# Altium schematic symbol library SCH - MCU - RENESAS - RENESAS R7FS7G27XXXXXXBD 224BGA.SchLib: 1 symbol
Pins are listed as number, name and electrical type; pins without a type are passive.

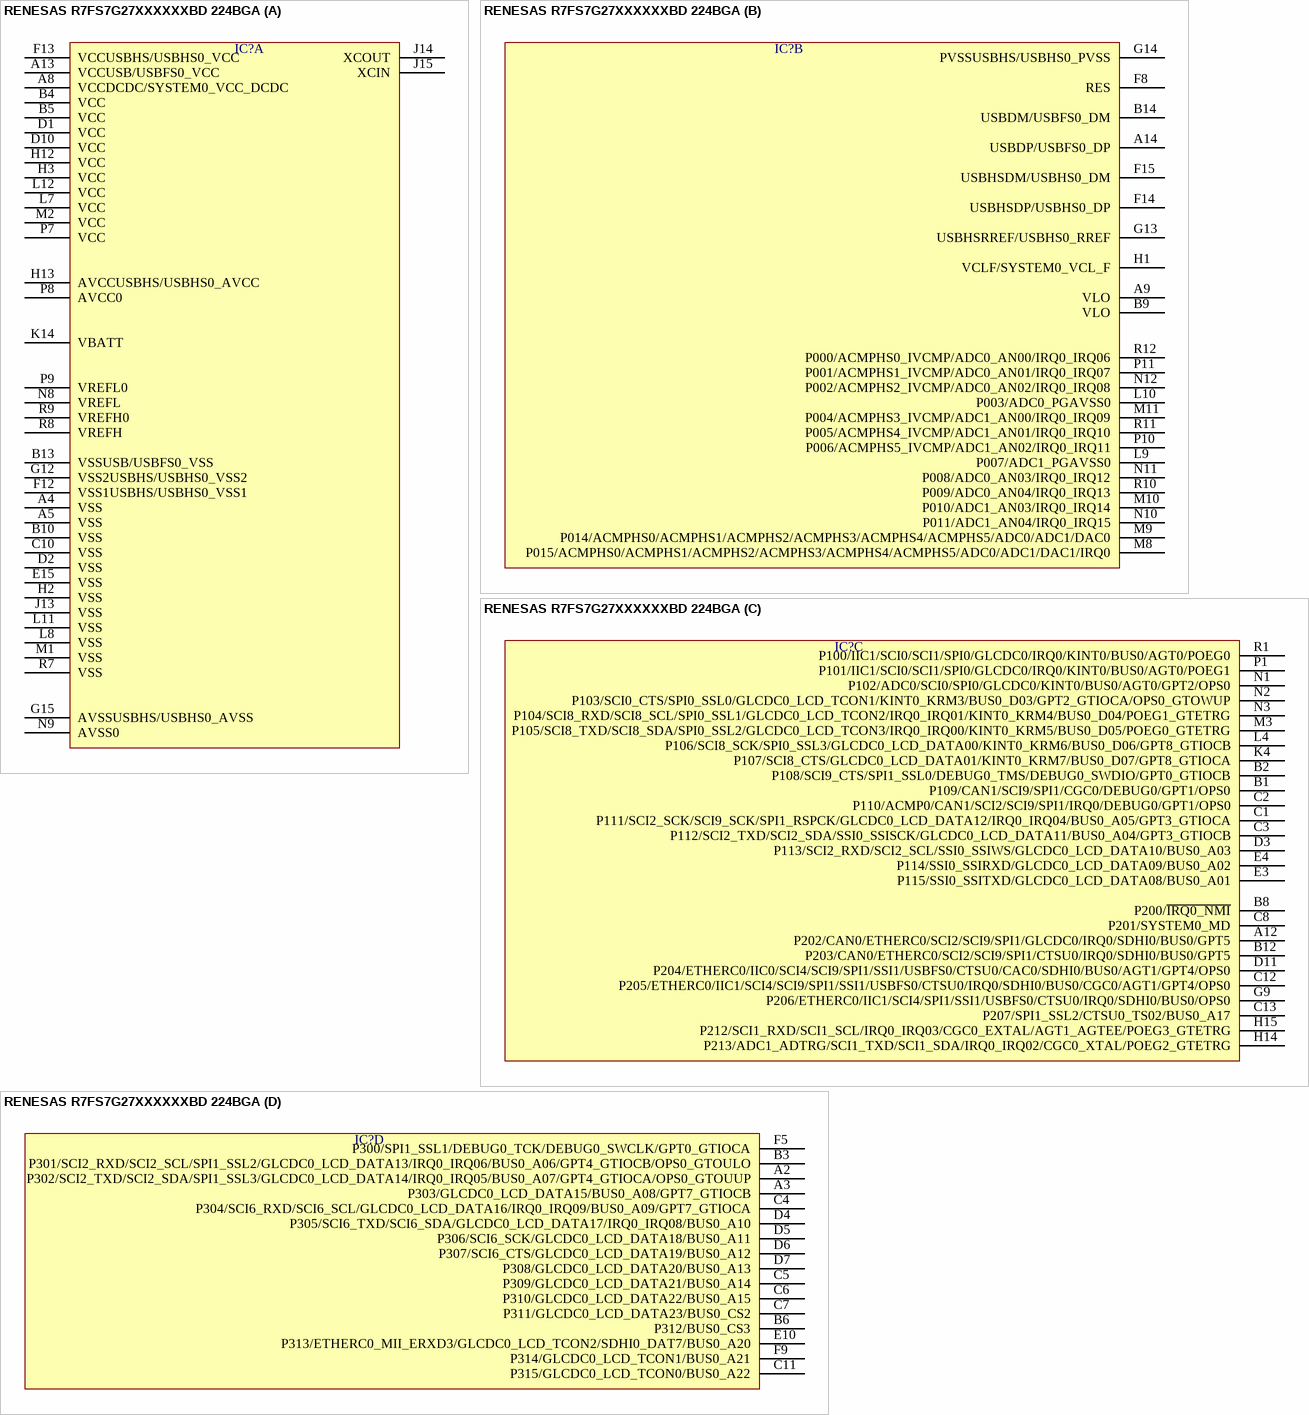
[diagram p0: symbol RENESAS R7FS7G27XXXXXXBD 224BGA]

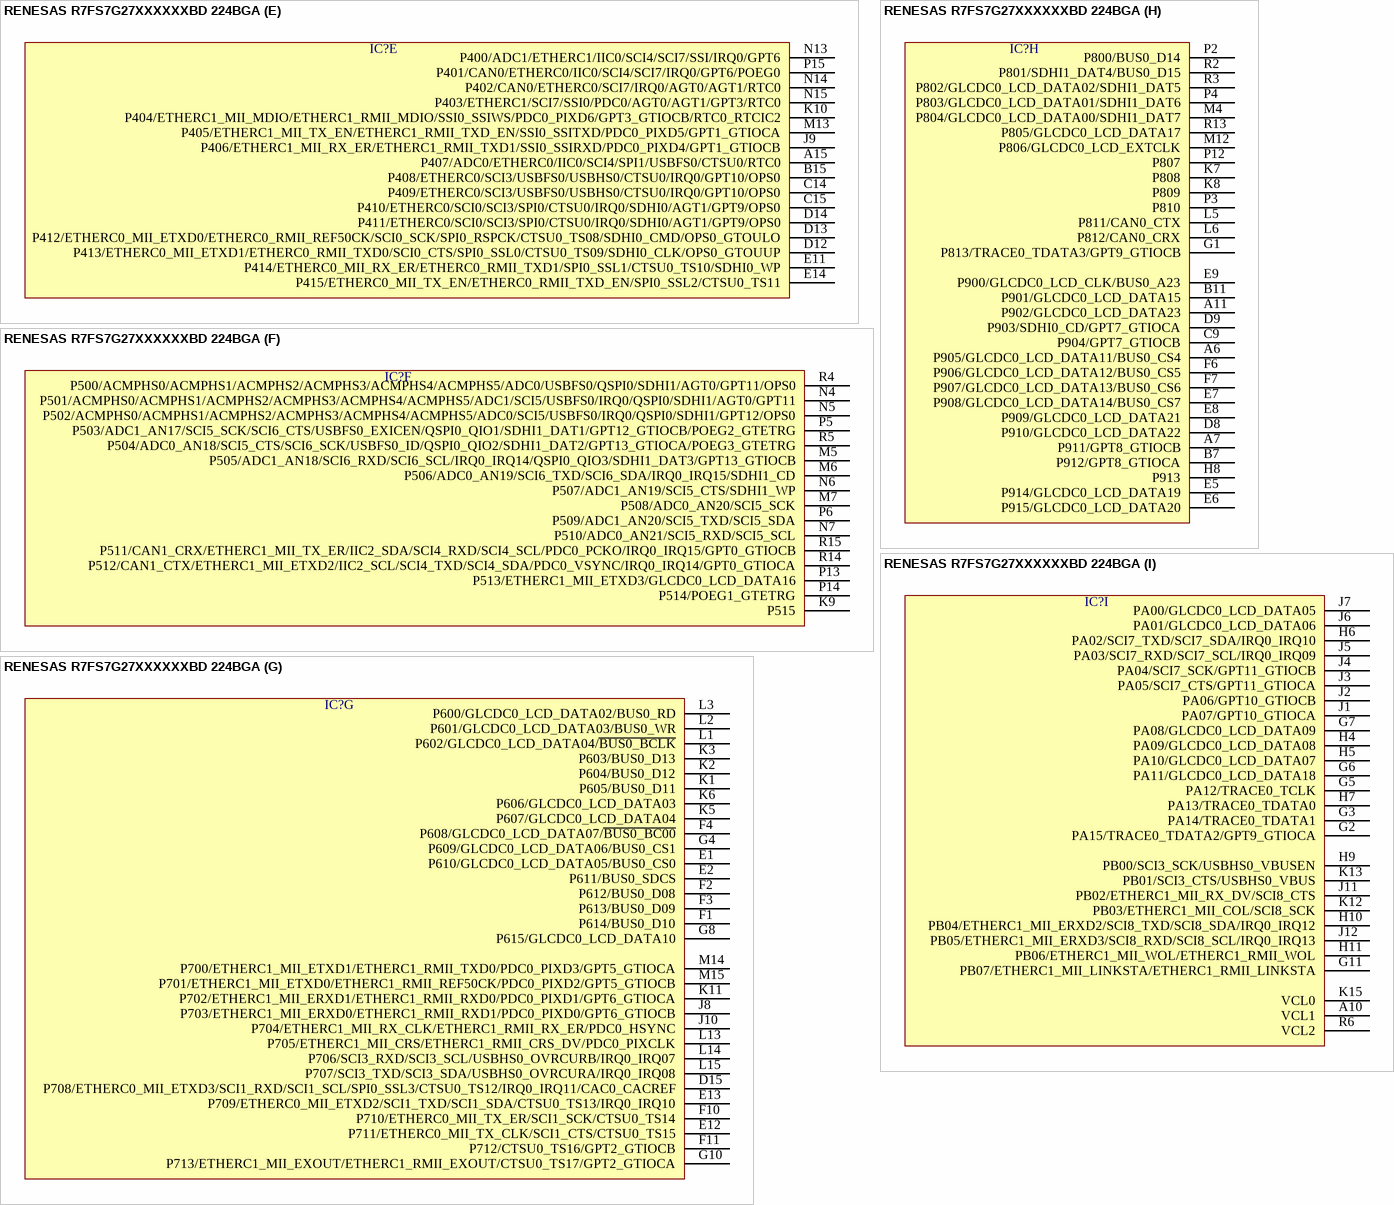
[diagram p1: symbol RENESAS R7FS7G27XXXXXXBD 224BGA]

## RENESAS R7FS7G27XXXXXXBD 224BGA
designator IC?  (value not drawn)
part A pins: A4 VSS, A5 VSS, A8 VCCDCDC/SYSTEM0_VCC_DCDC, A13 VCCUSB/USBFS0_VCC, B4 VCC, B5 VCC, B10 VSS, B13 VSSUSB/USBFS0_VSS, C10 VSS, D1 VCC, D2 VSS, D10 VCC, E15 VSS, F12 VSS1USBHS/USBHS0_VSS1, F13 VCCUSBHS/USBHS0_VCC, G12 VSS2USBHS/USBHS0_VSS2, G15 AVSSUSBHS/USBHS0_AVSS, H2 VSS, H3 VCC, H12 VCC, H13 AVCCUSBHS/USBHS0_AVCC, J13 VSS, J14 XCOUT, J15 XCIN, K14 VBATT, L7 VCC, L8 VSS, L11 VSS, L12 VCC, M1 VSS, M2 VCC, N8 VREFL, N9 AVSS0, P7 VCC, P8 AVCC0, P9 VREFL0, R7 VSS, R8 VREFH, R9 VREFH0
part B pins: A9 VLO, A14 USBDP/USBFS0_DP, B9 VLO, B14 USBDM/USBFS0_DM, F8 RES, F14 USBHSDP/USBHS0_DP, F15 USBHSDM/USBHS0_DM, G13 USBHSRREF/USBHS0_RREF, G14 PVSSUSBHS/USBHS0_PVSS, H1 VCLF/SYSTEM0_VCL_F, L9 P007/ADC1_PGAVSS0, L10 P003/ADC0_PGAVSS0, M8 P015/ACMPHS0/ACMPHS1/ACMPHS2/ACMPHS3/ACMPHS4/ACMPHS5/ADC0/ADC1/DAC1/IRQ0, M9 P014/ACMPHS0/ACMPHS1/ACMPHS2/ACMPHS3/ACMPHS4/ACMPHS5/ADC0/ADC1/DAC0, M10 P010/ADC1_AN03/IRQ0_IRQ14, M11 P004/ACMPHS3_IVCMP/ADC1_AN00/IRQ0_IRQ09, N10 P011/ADC1_AN04/IRQ0_IRQ15, N11 P008/ADC0_AN03/IRQ0_IRQ12, N12 P002/ACMPHS2_IVCMP/ADC0_AN02/IRQ0_IRQ08, P10 P006/ACMPHS5_IVCMP/ADC1_AN02/IRQ0_IRQ11, P11 P001/ACMPHS1_IVCMP/ADC0_AN01/IRQ0_IRQ07, R10 P009/ADC0_AN04/IRQ0_IRQ13, R11 P005/ACMPHS4_IVCMP/ADC1_AN01/IRQ0_IRQ10, R12 P000/ACMPHS0_IVCMP/ADC0_AN00/IRQ0_IRQ06
part C pins: A12 P202/CAN0/ETHERC0/SCI2/SCI9/SPI1/GLCDC0/IRQ0/SDHI0/BUS0/GPT5, B1 P109/CAN1/SCI9/SPI1/CGC0/DEBUG0/GPT1/OPS0, B2 P108/SCI9_CTS/SPI1_SSL0/DEBUG0_TMS/DEBUG0_SWDIO/GPT0_GTIOCB, B8 P200/~{IRQ0_NMI}, B12 P203/CAN0/ETHERC0/SCI2/SCI9/SPI1/CTSU0/IRQ0/SDHI0/BUS0/GPT5, C1 P111/SCI2_SCK/SCI9_SCK/SPI1_RSPCK/GLCDC0_LCD_DATA12/IRQ0_IRQ04/BUS0_A05/GPT3_GTIOCA, C2 P110/ACMP0/CAN1/SCI2/SCI9/SPI1/IRQ0/DEBUG0/GPT1/OPS0, C3 P112/SCI2_TXD/SCI2_SDA/SSI0_SSISCK/GLCDC0_LCD_DATA11/BUS0_A04/GPT3_GTIOCB, C8 P201/SYSTEM0_MD, C12 P205/ETHERC0/IIC1/SCI4/SCI9/SPI1/SSI1/USBFS0/CTSU0/IRQ0/SDHI0/BUS0/CGC0/AGT1/GPT4/OPS0, C13 P207/SPI1_SSL2/CTSU0_TS02/BUS0_A17, D3 P113/SCI2_RXD/SCI2_SCL/SSI0_SSIWS/GLCDC0_LCD_DATA10/BUS0_A03, D11 P204/ETHERC0/IIC0/SCI4/SCI9/SPI1/SSI1/USBFS0/CTSU0/CAC0/SDHI0/BUS0/AGT1/GPT4/OPS0, E3 P115/SSI0_SSITXD/GLCDC0_LCD_DATA08/BUS0_A01, E4 P114/SSI0_SSIRXD/GLCDC0_LCD_DATA09/BUS0_A02, G9 P206/ETHERC0/IIC1/SCI4/SPI1/SSI1/USBFS0/CTSU0/IRQ0/SDHI0/BUS0/OPS0, H14 P213/ADC1_ADTRG/SCI1_TXD/SCI1_SDA/IRQ0_IRQ02/CGC0_XTAL/POEG2_GTETRG, H15 P212/SCI1_RXD/SCI1_SCL/IRQ0_IRQ03/CGC0_EXTAL/AGT1_AGTEE/POEG3_GTETRG, K4 P107/SCI8_CTS/GLCDC0_LCD_DATA01/KINT0_KRM7/BUS0_D07/GPT8_GTIOCA, L4 P106/SCI8_SCK/SPI0_SSL3/GLCDC0_LCD_DATA00/KINT0_KRM6/BUS0_D06/GPT8_GTIOCB, M3 P105/SCI8_TXD/SCI8_SDA/SPI0_SSL2/GLCDC0_LCD_TCON3/IRQ0_IRQ00/KINT0_KRM5/BUS0_D05/POEG0_GTETRG, N1 P102/ADC0/SCI0/SPI0/GLCDC0/KINT0/BUS0/AGT0/GPT2/OPS0, N2 P103/SCI0_CTS/SPI0_SSL0/GLCDC0_LCD_TCON1/KINT0_KRM3/BUS0_D03/GPT2_GTIOCA/OPS0_GTOWUP, N3 P104/SCI8_RXD/SCI8_SCL/SPI0_SSL1/GLCDC0_LCD_TCON2/IRQ0_IRQ01/KINT0_KRM4/BUS0_D04/POEG1_GTETRG, P1 P101/IIC1/SCI0/SCI1/SPI0/GLCDC0/IRQ0/KINT0/BUS0/AGT0/POEG1, R1 P100/IIC1/SCI0/SCI1/SPI0/GLCDC0/IRQ0/KINT0/BUS0/AGT0/POEG0
part D pins: A2 P302/SCI2_TXD/SCI2_SDA/SPI1_SSL3/GLCDC0_LCD_DATA14/IRQ0_IRQ05/BUS0_A07/GPT4_GTIOCA/OPS0_GTOUUP, A3 P303/GLCDC0_LCD_DATA15/BUS0_A08/GPT7_GTIOCB, B3 P301/SCI2_RXD/SCI2_SCL/SPI1_SSL2/GLCDC0_LCD_DATA13/IRQ0_IRQ06/BUS0_A06/GPT4_GTIOCB/OPS0_GTOULO, B6 P312/BUS0_CS3, C4 P304/SCI6_RXD/SCI6_SCL/GLCDC0_LCD_DATA16/IRQ0_IRQ09/BUS0_A09/GPT7_GTIOCA, C5 P309/GLCDC0_LCD_DATA21/BUS0_A14, C6 P310/GLCDC0_LCD_DATA22/BUS0_A15, C7 P311/GLCDC0_LCD_DATA23/BUS0_CS2, C11 P315/GLCDC0_LCD_TCON0/BUS0_A22, D4 P305/SCI6_TXD/SCI6_SDA/GLCDC0_LCD_DATA17/IRQ0_IRQ08/BUS0_A10, D5 P306/SCI6_SCK/GLCDC0_LCD_DATA18/BUS0_A11, D6 P307/SCI6_CTS/GLCDC0_LCD_DATA19/BUS0_A12, D7 P308/GLCDC0_LCD_DATA20/BUS0_A13, E10 P313/ETHERC0_MII_ERXD3/GLCDC0_LCD_TCON2/SDHI0_DAT7/BUS0_A20, F5 P300/SPI1_SSL1/DEBUG0_TCK/DEBUG0_SWCLK/GPT0_GTIOCA, F9 P314/GLCDC0_LCD_TCON1/BUS0_A21
part E pins: A15 P407/ADC0/ETHERC0/IIC0/SCI4/SPI1/USBFS0/CTSU0/RTC0, B15 P408/ETHERC0/SCI3/USBFS0/USBHS0/CTSU0/IRQ0/GPT10/OPS0, C14 P409/ETHERC0/SCI3/USBFS0/USBHS0/CTSU0/IRQ0/GPT10/OPS0, C15 P410/ETHERC0/SCI0/SCI3/SPI0/CTSU0/IRQ0/SDHI0/AGT1/GPT9/OPS0, D12 P413/ETHERC0_MII_ETXD1/ETHERC0_RMII_TXD0/SCI0_CTS/SPI0_SSL0/CTSU0_TS09/SDHI0_CLK/OPS0_GTOUUP, D13 P412/ETHERC0_MII_ETXD0/ETHERC0_RMII_REF50CK/SCI0_SCK/SPI0_RSPCK/CTSU0_TS08/SDHI0_CMD/OPS0_GTOULO, D14 P411/ETHERC0/SCI0/SCI3/SPI0/CTSU0/IRQ0/SDHI0/AGT1/GPT9/OPS0, E11 P414/ETHERC0_MII_RX_ER/ETHERC0_RMII_TXD1/SPI0_SSL1/CTSU0_TS10/SDHI0_WP, E14 P415/ETHERC0_MII_TX_EN/ETHERC0_RMII_TXD_EN/SPI0_SSL2/CTSU0_TS11, J9 P406/ETHERC1_MII_RX_ER/ETHERC1_RMII_TXD1/SSI0_SSIRXD/PDC0_PIXD4/GPT1_GTIOCB, K10 P404/ETHERC1_MII_MDIO/ETHERC1_RMII_MDIO/SSI0_SSIWS/PDC0_PIXD6/GPT3_GTIOCB/RTC0_RTCIC2, M13 P405/ETHERC1_MII_TX_EN/ETHERC1_RMII_TXD_EN/SSI0_SSITXD/PDC0_PIXD5/GPT1_GTIOCA, N13 P400/ADC1/ETHERC1/IIC0/SCI4/SCI7/SSI/IRQ0/GPT6, N14 P402/CAN0/ETHERC0/SCI7/IRQ0/AGT0/AGT1/RTC0, N15 P403/ETHERC1/SCI7/SSI0/PDC0/AGT0/AGT1/GPT3/RTC0, P15 P401/CAN0/ETHERC0/IIC0/SCI4/SCI7/IRQ0/GPT6/POEG0
part F pins: K9 P515, M5 P505/ADC1_AN18/SCI6_RXD/SCI6_SCL/IRQ0_IRQ14/QSPI0_QIO3/SDHI1_DAT3/GPT13_GTIOCB, M6 P506/ADC0_AN19/SCI6_TXD/SCI6_SDA/IRQ0_IRQ15/SDHI1_CD, M7 P508/ADC0_AN20/SCI5_SCK, N4 P501/ACMPHS0/ACMPHS1/ACMPHS2/ACMPHS3/ACMPHS4/ACMPHS5/ADC1/SCI5/USBFS0/IRQ0/QSPI0/SDHI1/AGT0/GPT11, N5 P502/ACMPHS0/ACMPHS1/ACMPHS2/ACMPHS3/ACMPHS4/ACMPHS5/ADC0/SCI5/USBFS0/IRQ0/QSPI0/SDHI1/GPT12/OPS0, N6 P507/ADC1_AN19/SCI5_CTS/SDHI1_WP, N7 P510/ADC0_AN21/SCI5_RXD/SCI5_SCL, P5 P503/ADC1_AN17/SCI5_SCK/SCI6_CTS/USBFS0_EXICEN/QSPI0_QIO1/SDHI1_DAT1/GPT12_GTIOCB/POEG2_GTETRG, P6 P509/ADC1_AN20/SCI5_TXD/SCI5_SDA, P13 P513/ETHERC1_MII_ETXD3/GLCDC0_LCD_DATA16, P14 P514/POEG1_GTETRG, R4 P500/ACMPHS0/ACMPHS1/ACMPHS2/ACMPHS3/ACMPHS4/ACMPHS5/ADC0/USBFS0/QSPI0/SDHI1/AGT0/GPT11/OPS0, R5 P504/ADC0_AN18/SCI5_CTS/SCI6_SCK/USBFS0_ID/QSPI0_QIO2/SDHI1_DAT2/GPT13_GTIOCA/POEG3_GTETRG, R14 P512/CAN1_CTX/ETHERC1_MII_ETXD2/IIC2_SCL/SCI4_TXD/SCI4_SDA/PDC0_VSYNC/IRQ0_IRQ14/GPT0_GTIOCA, R15 P511/CAN1_CRX/ETHERC1_MII_TX_ER/IIC2_SDA/SCI4_RXD/SCI4_SCL/PDC0_PCKO/IRQ0_IRQ15/GPT0_GTIOCB
part G pins: D15 P708/ETHERC0_MII_ETXD3/SCI1_RXD/SCI1_SCL/SPI0_SSL3/CTSU0_TS12/IRQ0_IRQ11/CAC0_CACREF, E1 P610/GLCDC0_LCD_DATA05/BUS0_CS0, E2 P611/BUS0_SDCS, E12 P711/ETHERC0_MII_TX_CLK/SCI1_CTS/CTSU0_TS15, E13 P709/ETHERC0_MII_ETXD2/SCI1_TXD/SCI1_SDA/CTSU0_TS13/IRQ0_IRQ10, F1 P614/BUS0_D10, F2 P612/BUS0_D08, F3 P613/BUS0_D09, F4 P608/GLCDC0_LCD_DATA07/~{BUS0_BC00}, F10 P710/ETHERC0_MII_TX_ER/SCI1_SCK/CTSU0_TS14, F11 P712/CTSU0_TS16/GPT2_GTIOCB, G4 P609/GLCDC0_LCD_DATA06/BUS0_CS1, G8 P615/GLCDC0_LCD_DATA10, G10 P713/ETHERC1_MII_EXOUT/ETHERC1_RMII_EXOUT/CTSU0_TS17/GPT2_GTIOCA, J8 P703/ETHERC1_MII_ERXD0/ETHERC1_RMII_RXD1/PDC0_PIXD0/GPT6_GTIOCB, J10 P704/ETHERC1_MII_RX_CLK/ETHERC1_RMII_RX_ER/PDC0_HSYNC, K1 P605/BUS0_D11, K2 P604/BUS0_D12, K3 P603/BUS0_D13, K5 P607/GLCDC0_LCD_DATA04, K6 P606/GLCDC0_LCD_DATA03, K11 P702/ETHERC1_MII_ERXD1/ETHERC1_RMII_RXD0/PDC0_PIXD1/GPT6_GTIOCA, L1 P602/GLCDC0_LCD_DATA04/~{BUS0_BCLK}, L2 P601/GLCDC0_LCD_DATA03/BUS0_WR, L3 P600/GLCDC0_LCD_DATA02/BUS0_RD, L13 P705/ETHERC1_MII_CRS/ETHERC1_RMII_CRS_DV/PDC0_PIXCLK, L14 P706/SCI3_RXD/SCI3_SCL/USBHS0_OVRCURB/IRQ0_IRQ07, L15 P707/SCI3_TXD/SCI3_SDA/USBHS0_OVRCURA/IRQ0_IRQ08, M14 P700/ETHERC1_MII_ETXD1/ETHERC1_RMII_TXD0/PDC0_PIXD3/GPT5_GTIOCA, M15 P701/ETHERC1_MII_ETXD0/ETHERC1_RMII_REF50CK/PDC0_PIXD2/GPT5_GTIOCB
part H pins: A6 P905/GLCDC0_LCD_DATA11/BUS0_CS4, A7 P911/GPT8_GTIOCB, A11 P902/GLCDC0_LCD_DATA23, B7 P912/GPT8_GTIOCA, B11 P901/GLCDC0_LCD_DATA15, C9 P904/GPT7_GTIOCB, D8 P910/GLCDC0_LCD_DATA22, D9 P903/SDHI0_CD/GPT7_GTIOCA, E5 P914/GLCDC0_LCD_DATA19, E6 P915/GLCDC0_LCD_DATA20, E7 P908/GLCDC0_LCD_DATA14/BUS0_CS7, E8 P909/GLCDC0_LCD_DATA21, E9 P900/GLCDC0_LCD_CLK/BUS0_A23, F6 P906/GLCDC0_LCD_DATA12/BUS0_CS5, F7 P907/GLCDC0_LCD_DATA13/BUS0_CS6, G1 P813/TRACE0_TDATA3/GPT9_GTIOCB, H8 P913, K7 P808, K8 P809, L5 P811/CAN0_CTX, L6 P812/CAN0_CRX, M4 P804/GLCDC0_LCD_DATA00/SDHI1_DAT7, M12 P806/GLCDC0_LCD_EXTCLK, P2 P800/BUS0_D14, P3 P810, P4 P803/GLCDC0_LCD_DATA01/SDHI1_DAT6, P12 P807, R2 P801/SDHI1_DAT4/BUS0_D15, R3 P802/GLCDC0_LCD_DATA02/SDHI1_DAT5, R13 P805/GLCDC0_LCD_DATA17
part I pins: A10 VCL1, G2 PA15/TRACE0_TDATA2/GPT9_GTIOCA, G3 PA14/TRACE0_TDATA1, G5 PA12/TRACE0_TCLK, G6 PA11/GLCDC0_LCD_DATA18, G7 PA08/GLCDC0_LCD_DATA09, G11 PB07/ETHERC1_MII_LINKSTA/ETHERC1_RMII_LINKSTA, H4 PA09/GLCDC0_LCD_DATA08, H5 PA10/GLCDC0_LCD_DATA07, H6 PA02/SCI7_TXD/SCI7_SDA/IRQ0_IRQ10, H7 PA13/TRACE0_TDATA0, H9 PB00/SCI3_SCK/USBHS0_VBUSEN, H10 PB04/ETHERC1_MII_ERXD2/SCI8_TXD/SCI8_SDA/IRQ0_IRQ12, H11 PB06/ETHERC1_MII_WOL/ETHERC1_RMII_WOL, J1 PA07/GPT10_GTIOCA, J2 PA06/GPT10_GTIOCB, J3 PA05/SCI7_CTS/GPT11_GTIOCA, J4 PA04/SCI7_SCK/GPT11_GTIOCB, J5 PA03/SCI7_RXD/SCI7_SCL/IRQ0_IRQ09, J6 PA01/GLCDC0_LCD_DATA06, J7 PA00/GLCDC0_LCD_DATA05, J11 PB02/ETHERC1_MII_RX_DV/SCI8_CTS, J12 PB05/ETHERC1_MII_ERXD3/SCI8_RXD/SCI8_SCL/IRQ0_IRQ13, K12 PB03/ETHERC1_MII_COL/SCI8_SCK, K13 PB01/SCI3_CTS/USBHS0_VBUS, K15 VCL0, R6 VCL2